# EAGLE library part MCP1726 (library quickdev_v2)
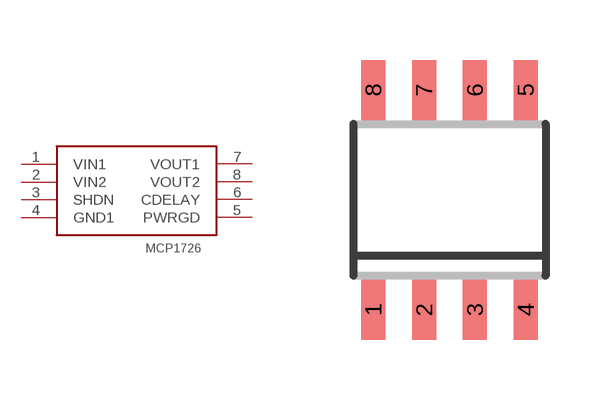
[diagram p3: symbol with the pads of SOIC8; footprint SOIC8]

Designator prefix -

## MCP1726  [SOIC8]
1  VIN1  pwr
2  VIN2  pwr
3  SHDN  in
4  GND1  pwr
5  PWRGD  pwr
6  CDELAY  pas
7  VOUT1  pwr
8  VOUT2  pwr

## Footprint SOIC8 (pad centres in mm)
SOIC-8 CASE 751-07 Source: http://www.onsemi.com/pub/Collateral/MC34164-D.PDF
smd 0.6 x 1.5: 1 -1.905,-2.75; 2 -0.635,-2.75; 3 0.635,-2.75; 4 1.905,-2.75; 5 1.905,2.75; 6 0.635,2.75; 7 -0.635,2.75; 8 -1.905,2.75